# Altium schematic symbol library Blinkinlabs.SchLib: 159 symbols (part 2 of 2)
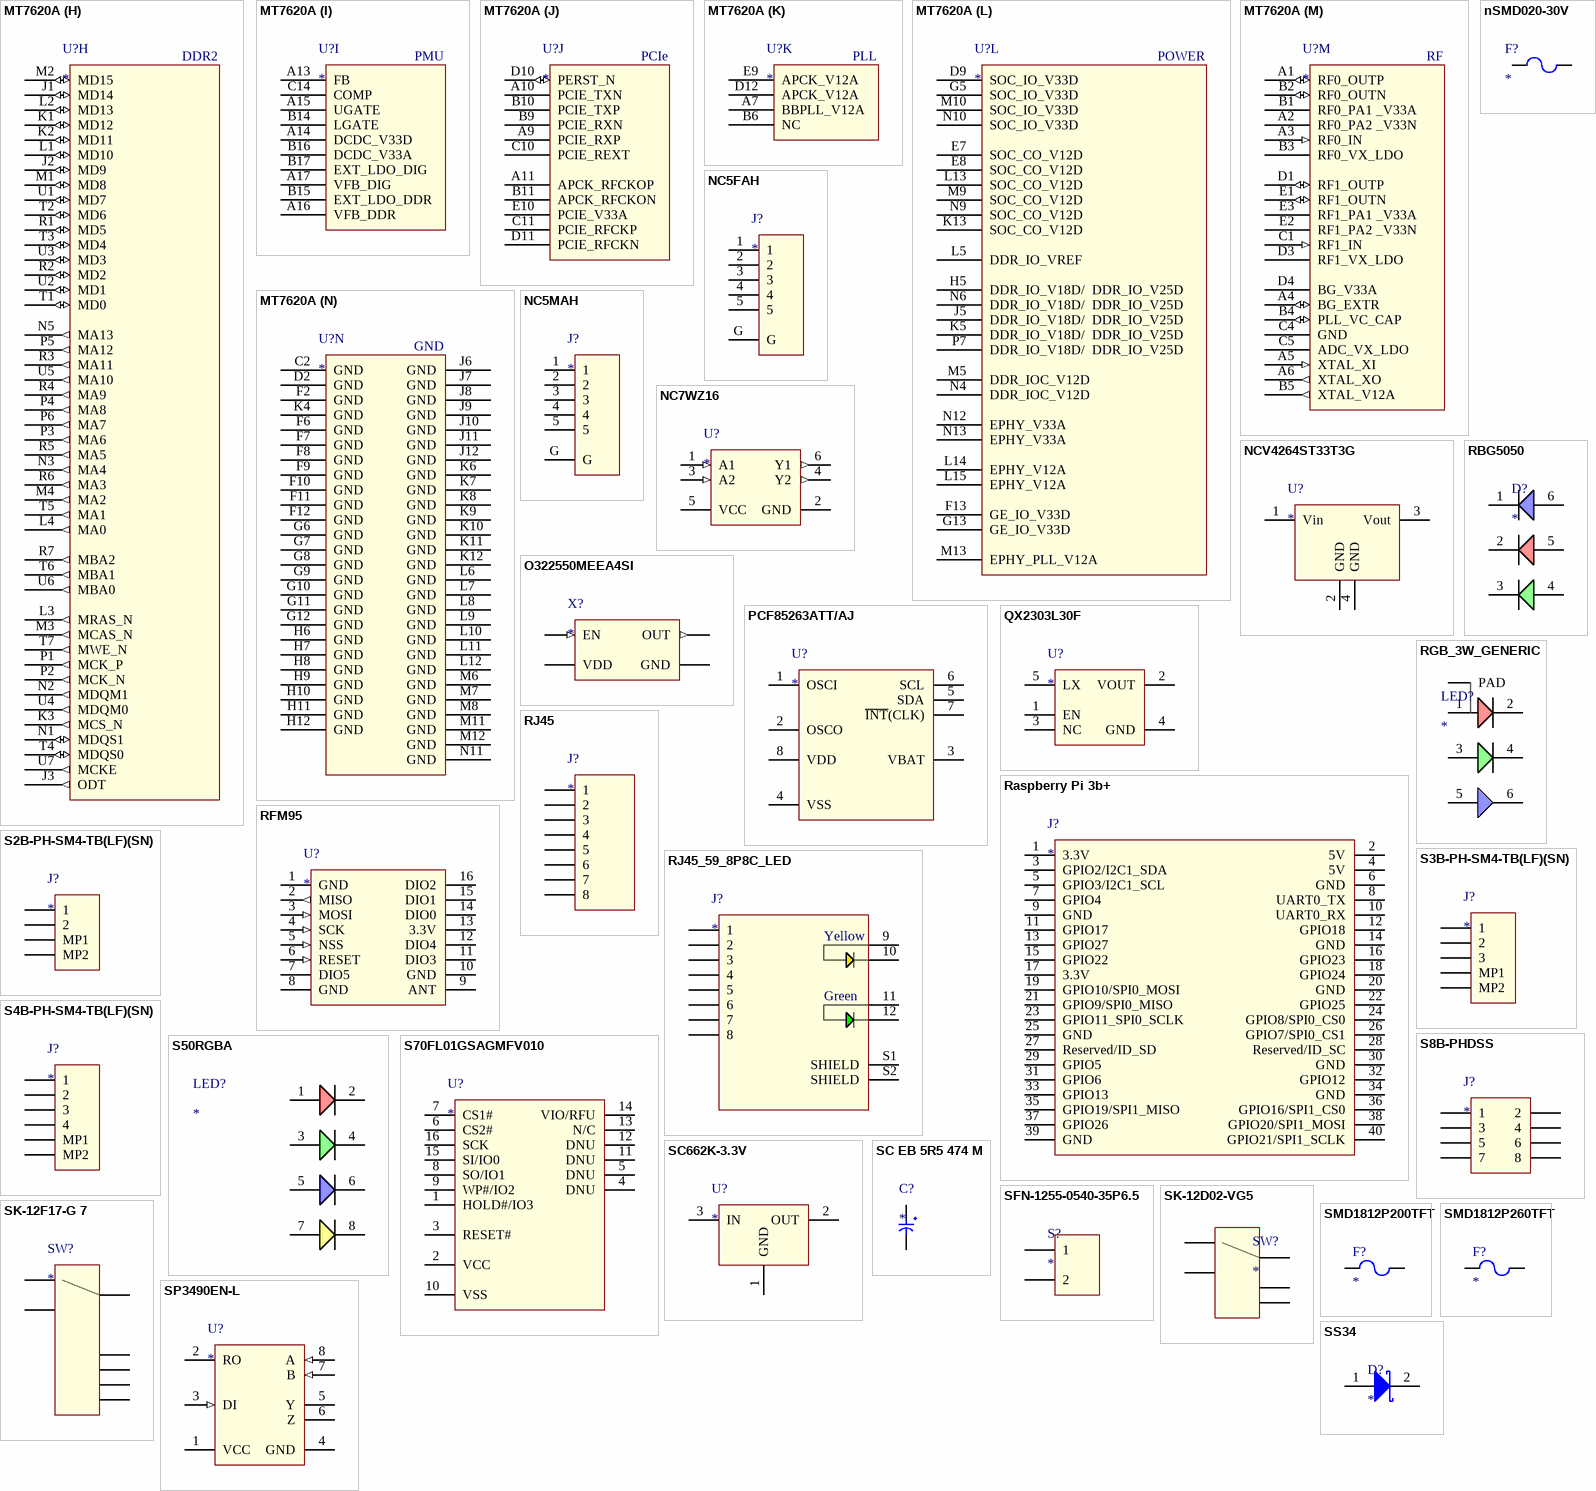
[diagram p6: symbols MT7620A to SS34]

## MT7620A
designator U?
Integrated 802.11n MAC/BBP and 2.4 GHz RF/FEM Router-on-a-Chip; Manufacturer: MediaTek; PartNumber: MT7620A; ComponentLink2Description: Datasheet; ComponentLink2URL: MT7620_Datasheet.pdf
footprint BGA265C65P17X17_1100X1100X120 (BGA, 265-Leads, Body 11.00x11.00mmx1.20mm, Pitch 0.65mm)
part A pins: P11 DSR_N (in) "UART DSR_N", P12 RXD (in) "UART RXD", P13 TXD2 (out) "UART Lite TXD", R12 TXD (out) "UART TXD", R13 RTS_N (out) "UART RTS", R14 RXD2 (in) "UART Lite RXD", T12 DCD_N (in) "UART DCD_N", T13 RIN (in) "UART RIN", U12 DTR_N (out) "UART DTR", U13 CTS_N (in) "UART CTS_N"
part B pins: A8 SPI_MOSI (io) "Master input/Slave output", B7 SPI_WP (io) "GOP function", B8 SPI_HOLD (io) "GOP function", C7 SPI_CS0 (out) "SPI chip select0", C8 SPI_MISO (io) "Master output/Slave input", C9 SPI_CS1 (out) "SPI chip select1", D8 SPI_CLK (out) "SPI clock", T14 I2C_SD (io) "I2C Data", U14 I2C_SCLK (io) "I2C Clock"
part C pins: D14 GE2_RXCLK (io), D15 GE2_RXDV (in), D16 GE1_RXDV (in), D17 GE1_RXCLK (io), E14 GE2_RXD3 (in), E15 GE2_RXD1 (in), E16 GE1_RXD1 (in), E17 GE1_RXD0 (in), F14 GE2_RXD2 (in), F15 GE2_RXD0 (in), F16 GE1_RDX3 (in), F17 GE1_RDX2 (in), G14 GE2_TXEN (out), G15 GE2_TXCLK (io), G16 GE1_TXEN (out), G17 GE1_TXCLK (io), H14 GE2_TXD2 (out), H15 GE2_TXD3 (out), H16 GE1_TXD1 (out), H17 GE1_TXD0 (out), J14 GE2_TXD1 (out), J15 GE2_TXD0 (out), J16 GE1_TXD3 (out), J17 GE1_TXD2 (out), K14 MDC (out), K15 MDIO (io)
part D pins: C6 PORST_N (in) "Power on reset", D5 ANT_TRN (out) "Positive signal for antenna T/R switch", D6 WDT_RST_N (out) "Watchdog Reset", D7 GPIO0 (io) "GPO0 (output only)", E4 ANT_TRNB (out) "Negative signal for antenna T/R switch", E5 PA_PE_G0 (out) "0 V to 3.3 V control for external PA0", E6 PA_PE_G1 (out) "0 V to 3.3 V control for external PA1", G4 WLED_N (out) "WLAN Activity LED"
part E pins: C12 UPHY0_V12D (power) "1.2 V USB PHY digital power supply", C15 UPHY0_VRES (io), C16 UPHY0_PADM (io) "USB Port0 data pin Data-", C17 UPHY0_PADP (io) "USB Port0 data pin Data+", E13 UPHY0_V33A (power) "3.3 V USB PHY analog power supply"
part F pins: H1 EPHY_LED3_N_JTCLK (io) "10/100 PHY Port #3 activity LED, JTAG_CLK", H2 EPHY_LED2_N_JTMS (io) "10/100 PHY Port #2 activity LED, JTAG_TMS", H3 EPHY_LED1_N_JTDI (io) "10/100 PHY Port #1 activity LED, JTAG_TDI", H4 EPHY_LED0_N_JTD0 (out) "10/100 PHY Port #0 activity LED, JTAG_TDO", J4 EPHY_LED4_N_JTRST_N (io) "10/100 PHY Port #4 activity LED, JTAG_TRST_N", M14 MDI_RN_P3 (in) "10/100 PHY Port #3 RXN", M15 MDI_RP_P3 (in) "10/100 PHY Port #3 RXP", M16 MDI_TP_P4 (out) "10/100 PHY Port #4 TXP", M17 MDI_TN_P4 (out) "10/100 PHY Port #4 TXN", N14 MDI_TN_P3 (out) "10/100 PHY Port #3 TXN", N15 MDI_TP_P3 (out) "10/100 PHY Port #3 TXP", N16 MDI_RP_P4 (in) "10/100 PHY Port #4 RXP", N17 MDI_RN_P4 (in) "10/100 PHY Port #4 RXN", P14 MDI_TP_P2 (out) "10/100 PHY Port #2 TXP", P15 MDI_TN_P2 (out) "10/100 PHY Port #2 TXN", P16 MDI_RP_P2 (in) "10/100 PHY Port #2 RXP", P17 MDI_RN_P2 (in) "10/100 PHY Port #2 RXN", R15 EPHY_RES_VBG "Connect to an external resistor to provide accurate  bias current", R16 MDI_RP_P1 (in) "10/100 PHY Port #1 RXP", R17 MDI_RN_P1 (in) "10/100 PHY Port #1 RXN", T15 MDI_RN_P0 (in) "10/100 PHY Port #0 RXN", T16 MDI_TP_P1 (out) "10/100 PHY Port #1 TXP", T17 MDI_TN_P1 (out) "10/100 PHY Port #1 TXN", U15 MDI_RP_P0 (in) "10/100 PHY Port #0 RXP", U16 MDI_TP_P0 (out) "10/100 PHY Port #0 TXP", U17 MDI_TN_P0 (out) "10/100 PHY Port #0 TXN"
part G pins: P8 ND_CS_N / BPIO45 (io), P9 ND_CLE / SD_CARD_DETECT (io), P10 ND_WP / SD_WP (io), R8 ND_RB_N / SD_CLK (io), R9 ND_RE_N / BT_ACT (io), R10 ND_ALE / SD_CMD (io), R11 ND_WE_N / GPIO46 (io), T8 ND_D6 / BT_WACT (io), T9 ND_D4 / BT_STAT (io), T10 ND_D2 / SD_D2 (io), T11 ND_D0 / SD_D0 (io), U8 ND_D7 / BT_ANT (io), U9 ND_D5 / BT_AUX (io), U10 ND_D3 / SD_D3 (io), U11 ND_D1 / SD_D1 (io)
part H pins: J1 MD14 (io) "DDR2 Data bit #14", J2 MD9 (io) "DDR2 Data bit #9", J3 ODT (out) "DDR2 ODT", K1 MD12 (io) "DDR2 Data bit #12", K2 MD11 (io) "DDR2 Data bit #11", K3 MCS_N (out) "DDR2 MCS_N", L1 MD10 (io) "DDR2 Data bit #10", L2 MD13 (io) "DDR2 Data bit #13", L3 MRAS_N (out) "DDR2 MRAS_N", L4 MA0 (out) "DDR2 Address bit #0", M1 MD8 (io) "DDR2 Data bit #8", M2 MD15 (io) "DDR2 Data bit #15", M3 MCAS_N (out) "DDR2 MCAS_N", M4 MA2 (out) "DDR2 Address bit #2", N1 MDQS1 (io) "DDR2 MDQS1", N2 MDQM1 (out) "DDR2 MDQM1", N3 MA4 (out) "DDR2 Address bit #4", N5 MA13 (out) "DDR2 Address bit #13", P1 MCK_P (out) "DDR2 MCK_P", P2 MCK_N (out) "DDR2 MCK_N", P3 MA6 (out) "DDR2 Address bit #6", P4 MA8 (out) "DDR2 Address bit #8", P5 MA12 (out) "DDR2 Address bit #12", P6 MA7 (out) "DDR2 Address bit #7", R1 MD5 (io) "DDR2 Data bit #5", R2 MD2 (io) "DDR2 Data bit #2", R3 MA11 (out) "DDR2 Address bit #11", R4 MA9 (out) "DDR2 Address bit #9", R5 MA5 (out) "DDR2 Address bit #5", R6 MA3 (out) "DDR2 Address bit #3", R7 MBA2 (out) "DDR2 MBA #2", T1 MD0 (io) "DDR2 Data bit #0", T2 MD6 (io) "DDR2 Data bit #6", T3 MD4 (io) "DDR2 Data bit #4", T4 MDQS0 (io) "DDR2 MDQS0", T5 MA1 (out) "DDR2 Address bit #1", T6 MBA1 (out) "DDR2 MBA #1", T7 MWE_N (out) "DDR2 MWE_N", U1 MD7 (io) "DDR2 Data bit #7", U2 MD1 (io) "DDR2 Data bit #1", U3 MD3 (io) "DDR2 Data bit #3", U4 MDQM0 (out) "DDR2 MDQM0", U5 MA10 (out) "DDR2 Address bit #10", U6 MBA0 (out) "DDR2 MBA #0", U7 MCKE (out) "DDR2 MCKE"
part I pins: A13 FB "This pin is part of the error amplifier and provides the  reference voltage which the sampled output voltage is  compared to. A difference between these two  voltages indicates an error in the output voltage", A14 DCDC_V33D (power) "3.3 V power supply only for gate driver of SW  (Ipeak<200 mA; Iavg<20 mA)", A15 UGATE "Gate drive for external upper MOSFET (Ipeak<200 mA;  Iavg<20 mA)", A16 VFB_DDR "DDR output feedback", A17 VFB_DIG "1.2 V output feedback", B14 LGATE "Gate drive for external lower MOSFET (Ipeak<200 mA;  Iavg<20 mA)", B15 EXT_LDO_DDR "Connect to Base terminal of external BJT (Iavg<20 mA)", B16 DCDC_V33A (power) "3.3 V analog power (Ipeak<200 mA; Iavg<10 mA)", B17 EXT_LDO_DIG "Connect to Base terminal of external BJT (Iavg<20 mA)", C14 COMP "This pin provides the error amplifier output which  compensates for errors in the output voltage identified  using the FB pin."
part J pins: A9 PCIE_RXP "PCIe0 differential receive RX +", A10 PCIE_TXN "PCIe0 differential transmit TX -", A11 APCK_RFCKOP "External reference clock output (positive)", B9 PCIE_RXN "PCIe0 differential receive RX -", B10 PCIE_TXP "PCIe0 differential transmit TX+", B11 APCK_RFCKON "External reference clock output (negative)", C10 PCIE_REXT "PCIe0 Reference resistor connection  (12K Ohm +/- 1 %)", C11 PCIE_RFCKP  "Device reference clock input (positive)", D10 PERST_N (io) "PICe reset", D11 PCIE_RFCKN "Device reference clock input (negative)", E10 PCIE_V33A (power) "PCIe 3.3 V analog power"
part K pins: A7 BBPLL_V12A (power) "1.2 V analog power supply to BB PLL", B6 NC, D12 APCK_V12A (power) "1.2 V analog power supply for CPLL/PPLL", E9 APCK_V12A  (power) "1.2 V analog power supply for CPLL/PPLL"
part L pins: D9 SOC_IO_V33D (power) "3.3 V digital I/O power supply", E7 SOC_CO_V12D  (power) "1.2 V digital core power supply", E8 SOC_CO_V12D  (power) "1.2 V digital core power supply", F13 GE_IO_V33D (power) "3.3 V power supply for RGMII", G5 SOC_IO_V33D (power) "3.3 V digital I/O power supply", G13 GE_IO_V33D (power) "3.3 V power supply for RGMII", H5 DDR_IO_V18D/  DDR_IO_V25D (power) "1.8 V/2.5 V/3.3 V level shifter power supply for  DDR2/DDR1/SDR", J5 DDR_IO_V18D/  DDR_IO_V25D (power) "1.8 V/2.5 V/3.3 V level shifter power supply for  DDR2/DDR1/SDR", K5 DDR_IO_V18D/  DDR_IO_V25D (power) "1.8 V/2.5 V/3.3 V level shifter power supply for  DDR2/DDR1/SDR", K13 SOC_CO_V12D  (power) "1.2 V digital core power supply", L5 DDR_IO_VREF (power) "0.9 V/1.25 V/GND reference voltage power supply for  DDR2/DDR1/SDR", L13 SOC_CO_V12D  (power) "1.2 V digital core power supply", L14 EPHY_V12A (power) "1.2 V power supply for EPHY", L15 EPHY_V12A (power) "1.2 V power supply for EPHY", M5 DDR_IOC_V12D (power) "1.2 V I/O core power supply for DDR and SDR", M9 SOC_CO_V12D  (power) "1.2 V digital core power supply", M10 SOC_IO_V33D (power) "3.3 V digital I/O power supply", M13 EPHY_PLL_V12A (power) "1.2 V power supply for EPHY PLL", N4 DDR_IOC_V12D (power) "1.2 V I/O core power supply for DDR and SDR", N6 DDR_IO_V18D/  DDR_IO_V25D (power) "1.8 V/2.5 V/3.3 V level shifter power supply for  DDR2/DDR1/SDR", N9 SOC_CO_V12D  (power) "1.2 V digital core power supply", N10 SOC_IO_V33D (power) "3.3 V digital I/O power supply", N12 EPHY_V33A (power) "3.3 V power supply for EPHY", N13 EPHY_V33A (power) "3.3 V power supply for EPHY", P7 DDR_IO_V18D/  DDR_IO_V25D (power) "1.8 V/2.5 V/3.3 V level shifter power supply for  DDR2/DDR1/SDR"
part M pins: A1 RF0_OUTP (io) "2.4 GHz TX0 PA output (positive)  2.4 GHz RX0 LNA input (positive)", A2 RF0_PA2 _V33N (power) "3.3 V Supply for RF channel0", A3 RF0_IN (in) "2.4 GHz RX0 input (aux LNA0 input)", A4 BG_EXTR (io) "External reference resistor (24 kΩ)", A5 XTAL_XI (in) "Crystal oscillator input", A6 XTAL_XO (out) "Crystal oscillator output", B1 RF0_PA1 _V33A (power) "3.3 V Supply for RF channel0", B2 RF0_OUTN (io) "2.4 GHz TX0 PA output (negative)  2.4 GHz RX0 LNA input (negative)", B3 RF0_VX_LDO (power) "1.2 V to 3.3 V supply for RF0", B4 PLL_VC_CAP (io) "PLL external loop filter", B5 XTAL_V12A (out) "Crystal LDO output", C1 RF1_IN (in) "2.4 GHz RX1 input (aux LNA0 input)", C4 GND (power) "Ground ball", C5 ADC_VX_LDO (power) "1.2 V to 3.3 V Supply for ADC", D1 RF1_OUTP (io) "2.4 GHz TX1 PA output (positive)  2.4 GHz RX1 LNA input (positive)", D3 RF1_VX_LDO (power) "1.2 V to 3.3 V supply for RF1", D4 BG_V33A (power) "3.3 V supply for band gap reference", E1 RF1_OUTN (io) "2.4 GHz TX1 PA output (negative)  2.4 GHz RX1 LNA input (negative)", E2 RF1_PA2 _V33N (power) "3.3 V Supply for RF channel1", E3 RF1_PA1 _V33A (power) "3.3 V Supply for RF channel1"
part N pins: C2 GND (power), D2 GND (power), F2 GND (power), F6 GND (power), F7 GND (power), F8 GND (power), F9 GND (power), F10 GND (power), F11 GND (power), F12 GND (power), G6 GND (power), G7 GND (power), G8 GND (power), G9 GND (power), G10 GND (power), G11 GND (power), G12 GND (power), H6 GND (power), H7 GND (power), H8 GND (power), H9 GND (power), H10 GND (power), H11 GND (power), H12 GND (power), J6 GND (power), J7 GND (power), J8 GND (power), J9 GND (power), J10 GND (power), J11 GND (power), J12 GND (power), K4 GND (power), K6 GND (power), K7 GND (power), K8 GND (power), K9 GND (power), K10 GND (power), K11 GND (power), K12 GND (power), L6 GND (power), L7 GND (power), L8 GND (power), L9 GND (power), L10 GND (power), L11 GND (power), L12 GND (power), M6 GND (power), M7 GND (power), M8 GND (power), M11 GND (power), M12 GND (power), N11 GND (power)
part A text: UART
part B text: SPI
part C text: RGMII
part D text: MISC
part E text: USB
part F text: 5-port PHY
part G text: NAND/SPI
part H text: DDR2
part I text: PMU
part J text: PCIe
part K text: PLL
part L text: POWER
part M text: RF

## NC5FAH
designator J?
5 pole female XLR receptacle, grounded; Manufacturer: Neutrik; PartNumber: NC5FAH
footprint NC5FAH (5 pole female XLR receptacle)
pins: 1, 2, 3, 4, 5, G

## NC5MAH
designator J?
5 pole male XLR receptacle, grounded; Manufacturer: Neutrik; PartNumber: NC5MAH
footprint NC5MAH (5 pole male XLR receptacle)
pins: 1, 2, 3, 4, 5, G

## NC7WZ16
designator U?
TinyLogic UHS Dual Buffer; Manufacturer: Fairchild; PartNumber: NC7WZ16P6X; ComponentLink2Description: Datasheet; ComponentLink2URL: NC7WZ16-97681.pdf
footprint SC70, 6-lead, 1.25mm
pins: 1 A1 (in) "Input 1", 2 GND (power) "Ground", 3 A2 (in) "Input 2", 4 Y2 (out) "Output 2", 5 VCC (power) "Supply Voltage (1.65-5.5V)", 6 Y1 (out) "Output 1"

## NCV4264ST33T3G
designator U?
100 mA Low Dropout  Linear Regulator, 3.3V; Manufacturer: ON Semiconductor; PartNumber: NCV4264ST33T3G; ComponentLink2Description: Datasheet; ComponentLink2URL: NCV4264-D.PDF
footprint SOT--223 (TO--261)
pins: 1 Vin (power) "Unregulated input voltage; 4.5 V to 45 V.", 2 GND (power) "D Ground; substrate.", 3 Vout (power) "Regulated output voltage; collector of the internal PNP pass transistor.", 4 GND "Ground; substrate and best thermal connection to the die."

## nSMD020-30V
designator F?
Surface Mount Fuses 30V 100A 200mA 460mA 1206 RoHS; Manufacturer: Sea & Land Electronic Corp; PartNumber: NSMD020-30V; ComponentLink2Description: Datasheet; ComponentLink2URL: nSMD020-30V 0-2A-30V-Self-healing-fuse_C69680.pdf
footprint SEAANDLAND_1206 (Surface Mount Fuses 1206)
pins: 1, 2

## O322550MEEA4SI
designator X?
YSO321SR 50MHZ 3.3V 25PPM SMD-3225_4P; Manufacturer: YXC扬兴科技; PartNumber: O322550MEEA4SI
footprint O322550MEEA4SI (50MHZ 3.3V 25PPM SMD-3225_4P)
pins: 1 EN (in), 2 GND (power), 3 OUT (out), 4 VDD (power)

## PCF85263ATT/AJ
designator U?
Tiny Real-Time Clock/calendar with alarm function, battery switch-over, time stamp input, and I2C-bus; Manufacturer: NXP; PartNumber: PCF85263ATT/AJ
footprint TSOP65P490X110-8N (TSOP, 8-Leads, Body 3.00x3.00mm, Pitch 0.65mm, IPC Medium Density)
pins: 1 OSCI, 2 OSCO, 3 VBAT, 4 VSS, 5 SDA, 6 SCL, 7 ~{INT}(CLK), 8 VDD

## QX2303L30F
designator U?
PFM Boost DC-DC Converter; Manufacturer: QX Micro Devices; PartNumber: QX2303L30F; ComponentLink2Description: Datasheet; ComponentLink2URL: QX2303.pdf
footprint SOT95P280X130-5N (SOT23, 5-Leads, Body 2.90x2.80mm, Pitch 0.95mm, IPC Medium Density)
pins: 1 EN, 2 VOUT, 3 NC, 4 GND, 5 LX

## Raspberry Pi 3b+
designator J?
Raspberry Pi shield Header
footprint RaspberryPi_Connector
pins: 1 3.3V, 2 5V, 3 GPIO2/I2C1_SDA, 4 5V, 5 GPIO3/I2C1_SCL, 6 GND, 7 GPIO4, 8 UART0_TX, 9 GND, 10 UART0_RX, 11 GPIO17, 12 GPIO18, 13 GPIO27, 14 GND, 15 GPIO22, 16 GPIO23, 17 3.3V, 18 GPIO24, 19 GPIO10/SPI0_MOSI, 20 GND, 21 GPIO9/SPI0_MISO, 22 GPIO25, 23 GPIO11_SPI0_SCLK, 24 GPIO8/SPI0_CS0, 25 GND, 26 GPIO7/SPI0_CS1, 27 Reserved/ID_SD, 28 Reserved/ID_SC, 29 GPIO5, 30 GND, 31 GPIO6, 32 GPIO12, 33 GPIO13, 34 GND, 35 GPIO19/SPI1_MISO, 36 GPIO16/SPI1_CS0, 37 GPIO26, 38 GPIO20/SPI1_MOSI, 39 GND, 40 GPIO21/SPI1_SCLK

## RBG5050
designator D?
Generic RGB LED in 5050 package. Note that several variants exist, so check the pinout!; PartNumber: Unknown/Generic; Manufacturer: Unknown/Generic
footprint 5050RGB
pins: 1, 2, 3, 4, 5, 6

## RFM95
designator U?
RFM95/96/97/98(W) - Low Power Long Range Transceiver Module; Manufacturer: HopeRF; PartNumber: RFM95
footprint RFM95/96/97/98 (Low Power Long Range Transceiver Module)
pins: 1 GND (power), 2 MISO (out), 3 MOSI (in), 4 SCK (in), 5 NSS (in), 6 RESET (in), 7 DIO5, 8 GND (power), 9 ANT, 10 GND (power), 11 DIO3, 12 DIO4, 13 3.3V (power), 14 DIO0, 15 DIO1, 16 DIO2

## RGB_3W_GENERIC
designator LED?
3W RGB LED in ceramic package; Manufacturer: Unknown/Generic; PartNumber: Unknown/Generic
footprint RGB_3W_GENENRIC (3W RGB LED, generic version)
pins: 1, 2, 3, 4, 5, 6, PAD

## RJ45
designator J?
CONN MOD JACK 8P8C R/A SHIELDED; Manufacturer: Wurth Electronics Inc; PartNumber: 61500814221; ComponentLink2Description: Datasheet; ComponentLink2URL: Wurth Modular Jack Conn WR-MJ.pdf
footprint WURTH 61500814221 (CONN MOD JACK 8P8C R/A SHIELDED)
pins: 1, 2, 3, 4, 5, 6, 7, 8

## RJ45_59_8P8C_LED
designator J?
Generic RJ49 jack with LED and without magnetics; PartNumber: RJ45_59_8P8C_LED; Manufacturer: Unknown/Generic
footprint RJ45_59_8P8C_LED (Generic RJ49 jack with LED and without magnetics)
pins: 1, 2, 3, 4, 5, 6, 7, 8, 9 Yellow Anode, 10 Yellow Cathode, 11 Green Anode, 12 Green Cathode, S1 SHIELD, S2 SHIELD
text: Yellow; Green

## S2B-PH-SM4-TB(LF)(SN)
designator J?
CONN HEADER SMD R/A 2POS 2MM; Manufacturer: JST; PartNumber: S2B-PH-SM4-TB(LF)(SN)
footprint S2B-PH-SM4-TB(LF)(SN) (CONN HEADER SMD R/A 2POS 2MM)
pins: 1, 2, MP1, MP2

## S3B-PH-SM4-TB(LF)(SN)
designator J?
CONN HEADER SMD R/A 3POS 2MM; Manufacturer: JST; PartNumber: S3B-PH-SM4-TB(LF)(SN)
footprint S3B-PH-SM4-TB(LF)(SN) (CONN HEADER SMD R/A 3POS 2MM)
pins: 1, 2, 3, MP1, MP2

## S4B-PH-SM4-TB(LF)(SN)
designator J?
CONN HEADER SMD R/A 4POS 2MM; Manufacturer: JST; PartNumber: S4B-PH-SM4-TB(LF)(SN)
footprint S4B-PH-SM4-TB(LF)(SN) (CONN HEADER SMD R/A 4POS 2MM)
pins: 1, 2, 3, 4, MP1, MP2

## S8B-PHDSS
designator J?
CONN HEADER R/A 8POS 2MM; Manufacturer: JST; PartNumber: S8B-PHDSS
footprint S8B-PHDSS (CONN HEADER R/A 8POS 2MM)
pins: 1, 2, 3, 4, 5, 6, 7, 8

## S50RGBA
designator LED?
RGBA LED, 5050 package, .2W; Manufacturer: Opsco; PartNumber: S50-RGBA
footprint S50-RGBX-XX-X (Opsco RGB+X LED module)
pins: 1, 2, 3, 4, 5, 6, 7, 8

## S70FL01GSAGMFV010
designator U?
1 Gbit (128 Mbyte) 3.0V SPI Flash; Manufacturer: Cypress; PartNumber: S70FL01GSAGMFV010; ComponentLink2Description: Datasheet; ComponentLink2URL: S70FL01GS_1_Gbit_128_Mbyte_3.0V_SPI_Flash.pdf
footprint SOP127P1030X265-16N (SOP, 16-Leads, Body 10.30x7.50mm, Pitch 1.27mm, IPC Medium Density)
pins: 1 HOLD#/IO3, 2 VCC, 3 RESET#, 4 DNU, 5 DNU, 6 CS2#, 7 CS1#, 8 SO/IO1, 9 WP#/IO2, 10 VSS, 11 DNU, 12 DNU, 13 N/C, 14 VIO/RFU, 15 SI/IO0, 16 SCK

## SC662K-3.3V
designator U?
3.3V, 250mA Low dropout voltage regulator IC; Manufacturer: Shenzhen Fuman Electronics Group Co.; PartNumber: SC662K-3.3V
footprint SOT95P230X117-3N (SOT23, 3-Leads, Body 2.90x2.30mm, Pitch 0.95mm, IPC Medium Density)
pins: 1 GND (power), 2 OUT (power), 3 IN (power)

## SC EB 5R5 474 M
designator C?
Wincap .47F, 5.5V, thru-hole supercap; PartNumber: SC EB 5R5 474 M; Manufacturer: Wincap
footprint SC EB 5R5 474 M (Wincap 5.5V, .47F supercap)
pins: 1, 2

## SFN-1255-0540-35P6.5
designator S?
Piezo Buzzer, 4KHz; Manufacturer: S&S; PartNumber: SFN-1255-0540-35P6.5
footprint SFN-1255-0540-35P6.5 (Piezo Buzzer, 4KHz)
pins: 1, 2

## SK-12D02-VG5
designator SW?
Toggle Switches Plugin RoHS; Manufacturer: HRO; PartNumber: SK-12D02-VG5
footprint SK-12D02-VG5
pins: 1 A, 2 COMMON, 3 B, 4 M1, 5 M2

## SK-12F17-G 7
designator SW?
SWITCH SLIDE SPDT 300MA 30V; Manufacturer: C&K; PartNumber: SK-12F17-G 7
footprint SK-12F17-G 7 (SWITCH SLIDE SPDT 300MA 30V)
pins: 1, 2, 3, M1, M2, M3, M4

## SMD1812P200TFT
designator F?
Resettable polyfuse, 2A, 8V max, 3.5A trip current; Manufacturer: Polytronics; PartNumber: SMD1812P200TFT; ComponentLink2Description: Datasheet; ComponentLink2URL: Data Sheet for SMD1812 Halogen Free-R
footprint FUSE1812 (1812 Polyfuse, generic)
pins: 1, 2

## SMD1812P260TFT
designator F?
Resettable polyfuse, 2.6A, 8V max, 5A trip current; Manufacturer: Polytronics; PartNumber: SMD1812P260TFT; ComponentLink2Description: Datasheet; ComponentLink2URL: Data Sheet for SMD1812 Halogen Free-R
footprint FUSE1812 (1812 Polyfuse, generic)
pins: 1, 2

## SP3490EN-L
designator U?
+3.3V Low Power Full-Duplex RS-485 Transceivers with 10Mbps Data Rate; Manufacturer: Exar; PartNumber: SP3490EN-L
footprint SOIC127P600X175-8N-2 (SOIC, 8-Leads, Body 4.90x3.90mm, Pitch 1.27mm, IPC Medium Density)
pins: 1 VCC, 2 RO, 3 DI (in), 4 GND, 5 Y, 6 Z, 7 B (in), 8 A (in)

## SS34
designator D?
3A, 40V Surface Mount Schottky Barrier Rectifiers; Manufacturer: Taiwan Semiconductor; PartNumber: SS34H; ComponentLink2Description: Datasheet; ComponentLink2URL: SS32 SERIES_L15.pdf
footprint SMC (DO-214AB)
pins: 1, 2

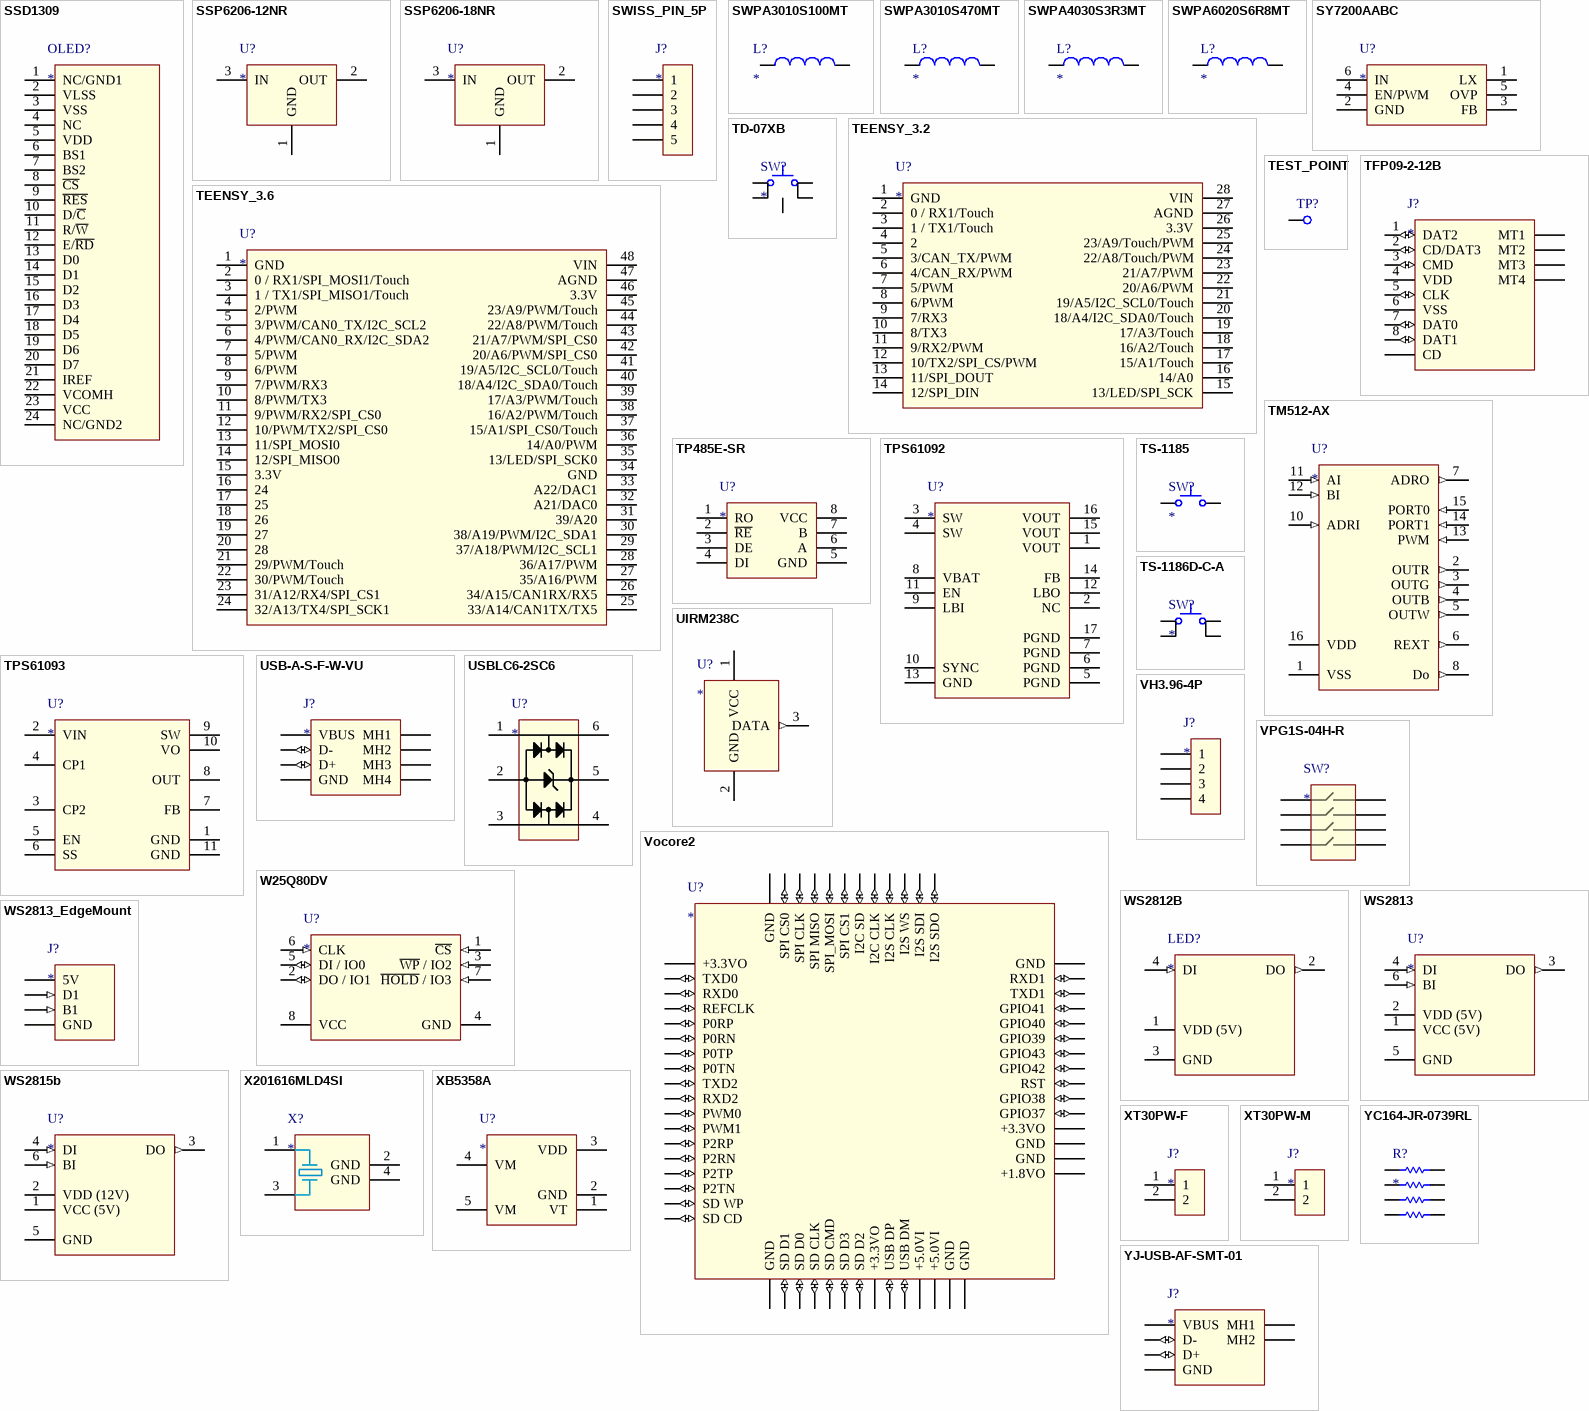
[diagram p5: symbols SSD1309 to YJ-USB-AF-SMT-01]

## SSD1309
designator OLED?
2.4" OLED display, 24-pin connector, SSD1309 driver IC
pins: 1 NC/GND1 (power), 2 VLSS, 3 VSS, 4 NC, 5 VDD, 6 BS1, 7 BS2, 8 ~{CS}, 9 ~{RES}, 10 D/~{C}, 11 R/~{W}, 12 E/~{RD}, 13 D0, 14 D1, 15 D2, 16 D3, 17 D4, 18 D5, 19 D6, 20 D7, 21 IREF, 22 VCOMH, 23 VCC, 24 NC/GND2

## SSP6206-12NR
designator U?
300mA Low Power LDO; Manufacturer: Shanghai Siproin Microelectronics Co.; PartNumber: SSP6206-12NR
footprint SOT95P230X117-3N (SOT23, 3-Leads, Body 2.90x2.30mm, Pitch 0.95mm, IPC Medium Density)
pins: 1 GND (power), 2 OUT (power), 3 IN (power)

## SSP6206-18NR
designator U?
300mA Low Power LDO; Manufacturer: Shanghai Siproin Microelectronics Co.; PartNumber: SSP6206-18NR
footprint SOT95P230X117-3N (SOT23, 3-Leads, Body 2.90x2.30mm, Pitch 0.95mm, IPC Medium Density)
pins: 1 GND (power), 2 OUT (power), 3 IN (power)

## SWISS_PIN_5P
designator J?
.1" header with round machined pins; Manufacturer: Unknown/Generic; PartNumber: Unknown/Generic
footprint SWISS_PIN_5P
pins: 1, 2, 3, 4, 5

## SWPA3010S100MT
designator L?
Wire Wound SMD Power Inductors 3010 3.0×3.0×1.0 10uH, .75A; Manufacturer: Sunlord(顺络); PartNumber: SWPA3010S100MT
footprint SWPA3010S (Wire Wound SMD Power Inductor 3.0×3.0×1.0)
pins: 1, 2

## SWPA3010S470MT
designator L?
Wire Wound SMD Power Inductors 3010 3.0×3.0×1.0 47uH, .35A; Manufacturer: Sunlord(顺络); PartNumber: SWPA3010S470MT
footprint SWPA3010S (Wire Wound SMD Power Inductor 3.0×3.0×1.0)
pins: 1, 2

## SWPA4030S3R3MT
designator L?
Wire Wound SMD Power Inductors 4030 4.0×4.0×3.0 3.3uH, 3.3A; Manufacturer: Sunlord(顺络); PartNumber: SWPA4030S3R3MT
footprint SWPA4030S (Wire Wound SMD Power Inductor 4.0×4.0×3.0)
pins: 1, 2

## SWPA6020S6R8MT
designator L?
Wire Wound SMD Power Inductors 6020 6.0×6.0×2.0, 6.8uH 20%, 2.3A; Manufacturer: Sunlord(顺络); PartNumber: SWPA6020S6R8MT
footprint SWPA6020S (Wire Wound SMD Power Inductor 6.0×6.0×2.0)
pins: 1, 2

## SY7200AABC
designator U?
30V High Current Boost LED Driver; Manufacturer: Silergy Corp; PartNumber: SY7200AABC
footprint SOT95P280X140-6N (SOT23, 6-Leads, Body 2.95x2.80mm, Pitch 0.95mm, IPC Medium Density)
pins: 1 LX, 2 GND, 3 FB, 4 EN/PWM, 5 OVP, 6 IN

## TD-07XB
designator SW?
Tact Switch; Manufacturer: ShenZhen XieJia Electronics Co Ltd; PartNumber: TD-07XB
footprint TD-07XB (TACT SWITCH)
pins: 1, 2, 3, 4, 5

## TEENSY_3.2
designator U?
Teensy 3.2; Manufacturer: PJRC; PartNumber: TEENSY32
footprint TEENSY3.2_SMD (Teensy 3.2 header using SMD pins)
footprint TEENSY3.2-THRU_HOLE (Teensy 3.2 header using thru-hole pins)
pins: 1 GND (power), 2 0 / RX1/Touch, 3 1 / TX1/Touch, 4 2, 5 3/CAN_TX/PWM, 6 4/CAN_RX/PWM, 7 5/PWM, 8 6/PWM, 9 7/RX3, 10 8/TX3, 11 9/RX2/PWM, 12 10/TX2/SPI_CS/PWM, 13 11/SPI_DOUT, 14 12/SPI_DIN, 15 13/LED/SPI_SCK, 16 14/A0, 17 15/A1/Touch, 18 16/A2/Touch, 19 17/A3/Touch, 20 18/A4/I2C_SDA0/Touch, 21 19/A5/I2C_SCL0/Touch, 22 20/A6/PWM, 23 21/A7/PWM, 24 22/A8/Touch/PWM, 25 23/A9/Touch/PWM, 26 3.3V "250mA max", 27 AGND, 28 VIN "3.6 - 6V"

## TEENSY_3.6
designator U?
Teensy 3.6; Manufacturer: PJRC; PartNumber: TEENSY36
footprint TEENSY3.6-THRU_HOLE
pins: 1 GND (power), 2 0 / RX1/SPI_MOSI1/Touch, 3 1 / TX1/SPI_MISO1/Touch, 4 2/PWM, 5 3/PWM/CAN0_TX/I2C_SCL2, 6 4/PWM/CAN0_RX/I2C_SDA2, 7 5/PWM, 8 6/PWM, 9 7/PWM/RX3, 10 8/PWM/TX3, 11 9/PWM/RX2/SPI_CS0, 12 10/PWM/TX2/SPI_CS0, 13 11/SPI_MOSI0, 14 12/SPI_MISO0, 15 3.3V, 16 24, 17 25, 18 26, 19 27, 20 28, 21 29/PWM/Touch, 22 30/PWM/Touch, 23 31/A12/RX4/SPI_CS1, 24 32/A13/TX4/SPI_SCK1, 25 33/A14/CAN1TX/TX5, 26 34/A15/CAN1RX/RX5, 27 35/A16/PWM, 28 36/A17/PWM, 29 37/A18/PWM/I2C_SCL1, 30 38/A19/PWM/I2C_SDA1, 31 39/A20, 32 A21/DAC0, 33 A22/DAC1, 34 GND, 35 13/LED/SPI_SCK0, 36 14/A0/PWM, 37 15/A1/SPI_CS0/Touch, 38 16/A2/PWM/Touch, 39 17/A3/PWM/Touch, 40 18/A4/I2C_SDA0/Touch, 41 19/A5/I2C_SCL0/Touch, 42 20/A6/PWM/SPI_CS0, 43 21/A7/PWM/SPI_CS0, 44 22/A8/PWM/Touch, 45 23/A9/PWM/Touch, 46 3.3V "250mA max", 47 AGND, 48 VIN "3.6 - 6V"

## TEST_POINT
designator TP?  (value not drawn)  (no BOM)
Test point
footprint TP-SMD-1mm (Test point, round, 1mm, SMD)
pins: 1 TP

## TFP09-2-12B
designator J?
Micro SD Card Connector; Manufacturer: Unknown/Generic; PartNumber: TFP09-2-12B
footprint TFP09-2-12B (Micro SD Card Connector)
pins: 1 DAT2 (io), 2 CD/DAT3 (io), 3 CMD (io), 4 VDD (power), 5 CLK (io), 6 VSS (power), 7 DAT0 (io), 8 DAT1 (io), CD, MT1, MT2, MT3, MT4

## TM512-AX
designator U?
DMX512 decoding and driver IC; Manufacturer: Shenzhen Titan Micro Electronics Co; PartNumber: TM512-AX; ComponentLink2Description: Datasheet; ComponentLink2URL: TM512-AX.pdf
footprint SOIC127P600X170-16N (SOIC, 16-Leads, Body 9.13x3.95mm, Pitch 1.27mm, IPC Medium Density)
pins: 1 VSS (power) "Power negative", 2 OUTR (out) "PWM output port", 3 OUTG (out) "PWM output port", 4 OUTB (out) "PWM output port", 5 OUTW (out) "PWM output port", 6 REXT (out) "Constant current feedback, the ground resistance to adjust the output current size", 7 ADRO (out) "Address write code output", 8 Do (out) "Decoding forwarding channel, can control our 18 series and 19 series IC", 10 ADRI (in) "Address write code line input, built-in pull-up", 11 AI (in) "Difference signal, positive", 12 BI (in) "Difference signal, negative", 13 PWM (in) "Output polarity selection, the general floating, then the output after the polarity phase  Reverse, while the port refresh rate down to 500Hz", 14 PORT1 (in) "Field selection, built-in pull-down", 15 PORT0 (in) "Field selection, built-in pull-down", 16 VDD (power) "Power positive"

## TP485E-SR
designator U?
±18K  ESD  Protection,  Bus-Polarity  Correcting  RS-485  Transceiver, 250 kbps; Manufacturer: 3PEAK  INCORPORATED; PartNumber: TP485E-SR
footprint SOIC127P600X155-8N (Footprint not found)
pins: 1 RO, 2 ~{RE}, 3 DE, 4 DI, 5 GND, 6 A, 7 B, 8 VCC

## TPS61092
designator U?
Synchronous Boost Converter With 2-A Switch, fixed 5V output; Manufacturer: Texas Instruments; PartNumber: TPS61092; ComponentLink2Description: Datasheet; ComponentLink2URL: tps61090.pdf
footprint QFN65P400X400X100_HS-17N (QFN, 16-Leads, Body 4.00x4.00mm, Pitch 0.65mm, Thermal Pad 2.70x2.70mm, IPC Medium Density)
pins: 1 VOUT, 2 NC, 3 SW, 4 SW, 5 PGND, 6 PGND, 7 PGND, 8 VBAT, 9 LBI, 10 SYNC, 11 EN, 12 LBO, 13 GND, 14 FB, 15 VOUT, 16 VOUT, 17 PGND

## TPS61093
designator U?
3 Low-Input Boost Converter With Integrated Power Diode and / Input/Output Isolation; Manufacturer: Texas Instruments; PartNumber: TPS61093; ComponentLink2Description: Datasheet; ComponentLink2URL: tps61093.pdf
footprint SON50P250X80_HS-11N (SON, 10-Leads, Body 2.50x2.50mm, Pitch 0.50mm, Thermal Pad 2.00x1.09mm, IPC Medium Density)
pins: 1 GND, 2 VIN, 3 CP2, 4 CP1, 5 EN, 6 SS, 7 FB, 8 OUT, 9 SW, 10 VO, 11 GND

## TS-1185
designator SW?
Tact Switch, 3x4mm, no alignment pin, turtle style; PartNumber: TS-1185; Manufacturer: XKB
footprint TS-1185 (3x4x2mm Tact Switch, no alignment pin)
pins: 1, 2

## TS-1186D-C-A
designator SW?
Tact Switch, side actuated; Manufacturer: XKB Industrial Precision Co; PartNumber: TS-1186D-C-A
footprint TS-1186D-C-A (Tact Switch, side actuated)
pins: 1, 2, 3, 4

## UIRM238C
designator U?
Infrared Receiver Module; PartNumber: UIRM238C; Manufacturer: 广州市晶彩光电器材厂; ComponentLink2Description: Datasheet; ComponentLink2URL: UIRM238C.doc
footprint UIRM238C (Infrared Receiver Module)
pins: 1 VCC (power), 2 GND (power), 3 DATA (out)

## USB-A-S-F-W-VU
designator J?
USB A, SINGLE, VERTICAL UPRIGHT THOUGH HOLE; Manufacturer: Samtec; PartNumber: USB-A-S-F-W-VU; ComponentLink2Description: Datasheet; ComponentLink2URL: usb-a-s-x-x-vu-xx-mkt.pdf
footprint USB-A-S-F-W-VU (USB A, SINGLE, VERTICAL UPRIGHT THOUGH HOLE)
pins: 1 VBUS (power) "USB 5V", 2 D- (io) "USB Data, negative", 3 D+ (io) "USB Data, positive", 4 GND (power) "Ground", 5 MH4 "Mounting Hole", 6 MH3 "Mounting Hole", 7 MH2 "Mounting Hole", 8 MH1 "Mounting Hole"

## USBLC6-2SC6
designator U?
Very low capacitance ESD protection; Manufacturer: STMicroelectronics; PartNumber: USBLC6-2SC6; ComponentLink2Description: Datasheet; ComponentLink2URL: USBLC6-2.pdf
footprint SOT95P280X145-6N (Footprint not found)
pins: 1 I/O1, 2 GND, 3 I/O2, 4 I/O2, 5, 6 I/O1

## VH3.96-4P
designator J?
VH3.96-4P. Chinese SMD variant, with top entry; PartNumber: Unknown/Generic; Manufacturer: Unknown/Generic
footprint VH3.96-4P
pins: 1, 2, 3, 4

## Vocore2
designator U?
Vocore2: The Coin-sized Linux Computer; Manufacturer: VoCore Studio; PartNumber: VoCore2
footprint VoCore2 (VoCore2: The Coin-sized Linux Computer)
pins: 16 I2S SDI (io) "GPIO0, I2S Data In", 17 I2S SDO (io) "GPIO1, I2S Data Out", 18 I2S WS (io) "GPIO2, I2S L/R Clock", 19 I2S CLK (io) "GPIO3, I2S Bit Clock", 20 I2C CLK (io) "GPIO4, I2C Clock", 21 I2C SD (io) "GPIO5, I2C Data", 24 SPI CS1 (io) "GPIO6, SPI Master Chip Select 1", 25 SPI CLK (io) "GPIO7, SPI Master Clock", 26 SPI MISO (io) "GPIO9, SPI Master In Slave Out", 27 SPI_MOSI (io) "GPIO8, SPI Master Out Slave In", 28 SPI CS0 (io) "GPIO10, SPI Master Chip Select 0", 29 REFCLK (io) "GPIO11, reference clock", 30 TXD0 (io) "GPIO12, UART0 Lite TXD", 31 RXD0 (io) "GPIO13, UART0 Lite RXD", 33 P0RP (io) "10/100 PHY Port #0 RXP", 34 P0RN (io) "10/100 PHY Port #0 RXN", 35 P0TP (io) "10/100 PHY Port #0 TXP", 36 P0TN (io) "10/100 PHY Port #0 TXN", 40 PWM0 (io) "10/100 PHY Port #1 RXN, GPIO17, UART2 Lite TXD, SPI Slave MOSI", 42 PWM1 (io) "10/100 PHY Port #1 RXP, GPIO16, UART2 Lite RXD, SPI Slave MISO", 43 TXD2 (io) "10/100 PHY Port #1 TXN, GPIO15, PWM Channel, SPI Slave Clock", 44 RXD2 (io) "10/100 PHY Port #1 TXP, GPIO14, PWM Channel, SPI Slave Chip Select", 45 P2RP (io) "10/100 PHY Port #2 RXP, GPIO18, PWM Channel", 46 P2RN (io) "10/100 PHY Port #2 RXN, GPIO19, PWM Channel", 47 P2TP (io) "10/100 PHY Port #2 TXP, GPIO20, PWM Channel", 48 P2TN (io) "10/100 PHY Port #2 TXN, GPIO21, PWM Channel", 49 SD WP (io) "GPIO22, 10/100 PHY Port #3 TXP, SDXC Write Protect", 50 SD CD (io) "GPIO23, 10/100 PHY Port #3 TXN, SDXC Card Detect", 51 SD D1 (io) "GPIO24, 10/100 PHY Port #3 RXP, SDXC Data Bit1", 52 SD D0 (io) "GPIO25, 10/100 PHY Port #3 RXN, SDXC Data Bit0", 54 SD CLK (io) "GPIO26, 10/100 PHY Port #4 RXP, SDXC Clock", 55 SD CMD (io) "GPIO27, 10/100 PHY Port #4 RXN, SDXC Command", 56 SD D3 (io) "GPIO28, 10/100 PHY Port #4 TXP, SDXC Data Bit3", 57 SD D2 (io) "GPIO29, 10/100 PHY Port #4 TXN, SDXC Data Bit2", 61 USB DP (io) "USB2.0 Data+", 62 USB DM (io) "USB2.0 Data-", 136 GPIO37 (io), 137 GPIO38 (io), 138 RST (io) "Reset, touch GND to reset", 139 GPIO39 (io) "GPIO39, JTAG Reset", 140 GPIO40 (io) "GPIO40, JTAG Clock", 141 GPIO41 (io) "GPIO41, JTAG TMS", 142 GPIO42 (io) "GPIO42, JTAG TDI", 143 GPIO43 (io) "GPIO43, JTAG TDO", 147 TXD1 (io) "GPIO13, UART1 Lite TXD", 148 RXD1 (io) "GPIO12, UART1 Lite RXD", +1.8VO_1 +1.8VO (power) "+1.8V output", +3.3VO_1 +3.3VO (power) "+3.3V output", +3.3VO_2 +3.3VO (power) "+3.3V output", +3.3VO_3 +3.3VO (power) "+3.3V output", +5.0VI_1 +5.0VI (power) "+5.0V input", +5.0VI_2 +5.0VI (power) "+5.0V input", GND_1 GND (power) "Groud", GND_2 GND (power), GND_3 GND (power) "Ground", GND_4 GND (power) "Ground", GND_5 GND (power) "Ground", GND_6 GND (power) "Ground", GND_7 GND (power) "Ground"

## VPG1S-04H-R
designator SW?
DIP SWITCH, 4P, Thru-Hole; Manufacturer: CIXI CITY DONGWEI ELECTRONICS CO.,LTD; PartNumber: VPG1S-04H-R
footprint VPG1S-04H-R (DIP SWITCH, 4P, Thru-Hole)
pins: 1, 2, 3, 4, 5, 6, 7, 8

## W25Q80DV
designator U?
3V 8Mbit Serial Flash Memory with Dual and Quad SPI; Manufacturer: Winbond; PartNumber: W25Q80DVUXIE; ComponentLink2Description: Datasheet; ComponentLink2URL: w25x20cl_revf 20150806.pdf
footprint USON 2x3 (PG-USON-8-1-Package_Overview.pdf)
pins: 1 ~{CS} (in) "Chip Select Input", 2 DO / IO1 (io) "Data Input / Output", 3 ~{WP} / IO2 (in) "Write Protect Input", 4 GND (power) "Ground", 5 DI / IO0 (io) "Data Input / Output", 6 CLK (in) "Serial Clock Input", 7 ~{HOLD} / IO3 (in) "Hold Input", 8 VCC (power) "Power Supply"

## WS2812B
designator LED?
WS2812B is a intelligent control LED light source that the control circuit and RGB chip are integrated in a package of 5050 components.; Manufacturer: WorldSemi; PartNumber: WS2812B
footprint WS2812B (5V digital LED in 5050 package)
pins: 1 VDD (5V) (power) "Regulated 5V output", 2 DO (out) "Data out", 3 GND (power) "Ground", 4 DI (in) "Data input"

## WS2813
designator U?
5V addressable LED w/redundant data; Manufacturer: World Semi; PartNumber: WS2813
footprint 5050RGB
pins: 1 VCC (5V) (power) "Regulated 5V output", 2 VDD (5V) (power) "12V input", 3 DO (out) "Data out", 4 DI (in) "Data input", 5 GND (power) "Ground", 6 BI (in) "Backup input"

## WS2813_EdgeMount
designator J?  (no BOM)
Edge-mount connector for WS2813 LED strip
footprint WS2813_EdgeMount (Castellated edge mount connector for WS2813)
pins: 1 GND (power) "Ground", 2 B1 (in) "Backup data input", 3 D1 (in) "Primary data input", 4 5V (power)

## WS2815b
designator U?
12V addressable LED; Manufacturer: World Semi; PartNumber: WS2815B
footprint 5050RGB
pins: 1 VCC (5V) (power) "Regulated 5V output", 2 VDD (12V) (power) "12V input", 3 DO (out) "Data out", 4 DI (in) "Data input", 5 GND (power) "Ground", 6 BI (in) "Backup input"

## X201616MLD4SI
designator X?
16 MHz 2016 Crystal resonator; Manufacturer: Yangxing Tech; PartNumber: X201616MLD4SI; ComponentLink2Description: Datasheet; ComponentLink2URL: Yangxing-Tech-X201616MLD4SI_C108154.pdf
footprint YSX211SL (YXC crystal, 2.05x1.65x.5mm, 16-54MHz)
pins: 1 XTAL1, 2 GND (power) "Ground", 3 XTAL2, 4 GND (power) "Ground"

## XB5358A
designator U?
One Cell Lithium-ion/Polymer Battery Protection IC; Manufacturer: xysemi(赛芯微); PartNumber: XB5358A
footprint SOT95P280X125-5N (Footprint not found)
pins: 1 VT, 2 GND, 3 VDD, 4 VM, 5 VM

## XT30PW-F
designator J?
Socket; DC supply; XT30; female; PIN:2; on PCBs; THT; Colour: yellow; Manufacturer: AMASS; PartNumber: XT30PW-F
footprint XT30PW-F (Socket; DC supply; XT30; female; PIN:2; on PCBs; THT; Colour: yellow)
pins: 1, 2

## XT30PW-M
designator J?
Socket; DC supply; XT30; male; PIN:2; on PCBs; THT; Colour: yellow; Manufacturer: AMASS; PartNumber: XT30PW-M
footprint XT30PW-m (Socket; DC supply; XT30; male; PIN:2; on PCBs; THT; Colour: yellow)
pins: 1, 2

## YC164-JR-0739RL
designator R?
Resistor Pack, 39ohm, 5%; Manufacturer: Yageo; PartNumber: YC164-JR-0739RL; ComponentLink2Description: Datasheet; ComponentLink2URL: YC102-358,TC122-164_Series_DS.pdf
footprint CAC-80P319X150-8N (Chip Array, ConvexE, 8-Leads, Pitch 0.80mm,  Body 3.20x1.50mm,  IPC Medium Density)
pins: 1, 2, 3, 4, 5, 6, 7, 8

## YJ-USB-AF-SMT-01
designator J?
USB A connector, SMD; PartNumber: YJ-USB-AF-SMT-01; Manufacturer: Unknown/Generic
footprint YJ-USB-AF-SMT-01 (USB A connector, SMD)
pins: 1 VBUS (power) "USB 5V", 2 D- (io) "USB Data, negative", 3 D+ (io) "USB Data, positive", 4 GND (power) "Ground", 5 MH2 "Mounting Hole", 6 MH1 "Mounting Hole"